# Altium integrated library murata-sensor.IntLib: 2 symbols
Pins are listed as number, name and electrical type; pins without a type are passive.

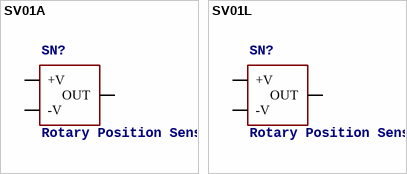
[diagram p0: symbols SV01A to SV01L]

## SV01A
designator SN?, comment Rotary Position Sensors   SMD/Lead Dust-proof Type 12mm Size SV01 Series Source: http://www.murata.com/catalog/r50/el0595.pdf
OC_FARNELL: 1406648; OC_NEWARK: unknown
footprint SV01A
pins: 1 -V, 2 OUT, 3 +V

## SV01L
designator SN?, comment Rotary Position Sensors   SMD/Lead Dust-proof Type 12mm Size SV01 Series Source: http://www.murata.com/catalog/r50/el0595.pdf
OC_FARNELL: unknown; OC_NEWARK: unknown
footprint SV01L
pins: 1 -V, 2 OUT, 3 +V